# EAGLE library part ADAFRUIT-LSM9DS0 (library BOBs)
Adafruit-LSM9DS0
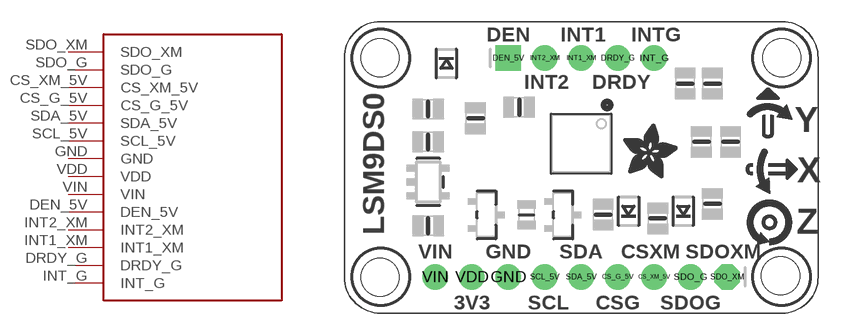
[diagram p0: symbol with the pads of ADAFRUIT-LSM9DS0; footprint ADAFRUIT-LSM9DS0]

Designator prefix -

## ADAFRUIT-LSM9DS0-BOB (DIST: Adafruit; DISTPN: 2021)  [ADAFRUIT-LSM9DS0]
CS_G_5V  CS_G_5V
CS_XM_5V  CS_XM_5V
DEN_5V  DEN_5V
DRDY_G  DRDY_G
GND  GND
INT1_XM  INT1_XM
INT2_XM  INT2_XM
INT_G  INT_G
SCL_5V  SCL_5V
SDA_5V  SDA_5V
SDO_G  SDO_G
SDO_XM  SDO_XM
VDD  VDD
VIN  VIN

## Footprint ADAFRUIT-LSM9DS0 (pad centres in mm)
drill 1 pad 1.778: CS_G_5V 19.05,2.54; CS_XM_5V 21.59,2.54; DRDY_G 19.05,17.78; GND 11.43,2.54; INT1_XM 16.51,17.78; INT2_XM 13.97,17.78; INT_G 21.59,17.78; SCL_5V 13.97,2.54; SDA_5V 16.51,2.54; SDO_G 24.13,2.54; VDD 8.89,2.54; VIN 6.35,2.54
drill 1 pad 1.778 square: DEN_5V 11.43,17.78
drill 1 pad 1.778 octagon: SDO_XM 26.67,2.54
hole 2.65 at 2.5,17.8
hole 2.65 at 2.5,2.5
hole 2.65 at 30.4,2.6
hole 2.65 at 30.5,17.8